# Altium footprint library Raspberry Pi 3.PcbLib: 1 footprints
Each footprint in its own frame and in the unit in brackets; x right, y up, seen from the top. Pads: shape width x height; smd on the part's side, far side on the other; paste and mask are expansions set on the pad; w line width, h text height; cw(c..) or ccw(c..) is an arc to the next point about the centre after c.
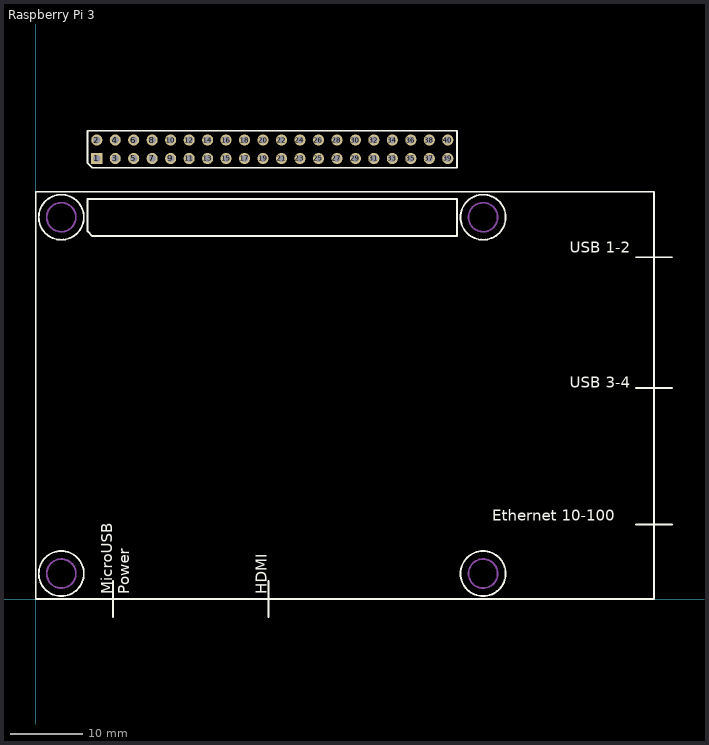
[diagram p0: the footprint, top view; thin cyan lines are the x and y axes]

## Raspberry Pi 3 [mil]
pads (40):
  rect 60x60 hole 40: 1(330,2385)
  round 60 hole 40: 2(330,2485) 3(430,2385) 4(430,2485) 5(530,2385) 6(530,2485) 7(630,2385) 8(630,2485) 9(730,2385) 10(730,2485) 11(830,2385) 12(830,2485) 13(930,2385) 14(930,2485) 15(1030,2385) 16(1030,2485) 17(1130,2385) 18(1130,2485) 19(1230,2385) 20(1230,2485) 21(1330,2385) 22(1330,2485) 23(1430,2385) 24(1430,2485) 25(1530,2385) 26(1530,2485) 27(1630,2385) 28(1630,2485) 29(1730,2385) 30(1730,2485) 31(1830,2385) 32(1830,2485) 33(1930,2385) 34(1930,2485) 35(2030,2385) 36(2030,2485) 37(2130,2385) 38(2130,2485) 39(2230,2385) 40(2230,2485)
Top Overlay:
  circle w10: c137.8,2066.93 r122.05
  circle w10: c2421.26,137.8 r122.05
  circle w10: c2421.26,2066.93 r122.05
  circle w10: c137.8,137.8 r122.05
  lines w10: 417.32,-98.43 417.32,98.43 ; 1259.84,-98.43 1259.84,98.43 ; 3248.03,403.54 3444.88,403.54 ; 3248.03,1141.73 3444.88,1141.73 ; 3248.03,1850.39 3444.88,1850.39 ; 0,0 0,2204.72 3346.46,2204.72 3346.46,0 0,0 ; 280,1990 305,1965 2280,1965 2280,2165 280,2165 280,1990 ; 280,2360 280,2535 2280,2535 2280,2335 305,2335 280,2360
  text "USB 1-2" at 2890,1875 h60
  text "USB 3-4" at 2890,1145 h60
  text "Ethernet 10-100" at 2470,425 h60
  text "HDMI" at 1250,25 h60
  text "MicroUSB / Power" at 505,25 h60
Mechanical 1:
  circle w10: c137.8,2066.93 r78.74
  circle w10: c2421.26,137.8 r78.74
  circle w10: c2421.26,2066.93 r78.74
  circle w10: c137.8,137.8 r78.74
3D body: height 826.77, standoff 275.59, extent 2700,100 3450,700
3D body: height 905.51, standoff 275.59, extent 2780,895 3450,1405
3D body: height 905.51, standoff 275.59, extent 2780,1595 3450,2105
3D body: height 551.18, standoff 275.59, extent 960,-80 1560,420
3D body: height 275.59, standoff 196.85, extent 0,0 3345,2205
3D body: height 472.44, standoff 275.59, extent 280,1965 2280,2165
3D body: height 314.96, standoff 275.59, extent 750,1000 1350,1600
3D body: height 314.96, standoff 275.59, extent 2200,1100 2600,1500